# EAGLE library part S1D13524 (library epd)
edit this description Auto generated by make-symbol-device-package-bsdl.ulp Rev. 44 Source:
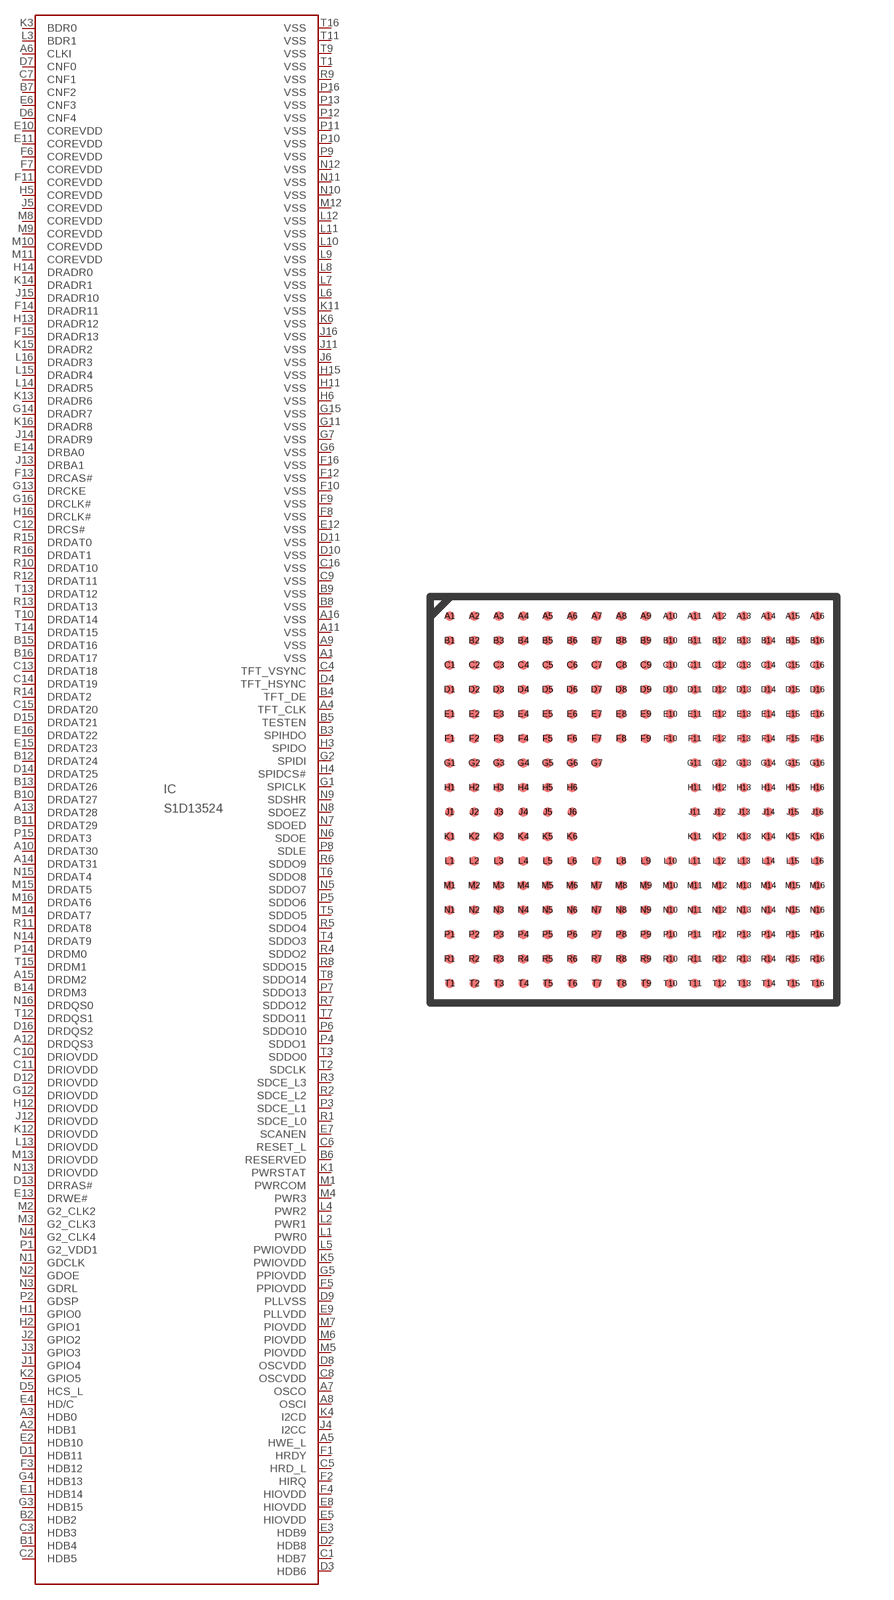
[diagram p0: symbol with the pads of PFBGA11UK; footprint PFBGA11UK]

Designator prefix IC

## S1D13524  [PFBGA11UK]
A1  VSS  pwr
A2  HDB1
A3  HDB0
A4  TFT_CLK  in
A5  HWE_L  in
A6  CLKI  in
A7  OSCO  out
A8  OSCI  in
A9  VSS  pwr
A10  DRDAT30
A11  VSS  pwr
A12  DRDQS3
A13  DRDAT28
A14  DRDAT31
A15  DRDM2  out
A16  VSS  pwr
B1  HDB4
B2  HDB2
B3  SPIHDO  out
B4  TFT_DE  in
B5  TESTEN  in
B6  RESERVED  in
B7  CNF2  in
B8  VSS  pwr
B9  VSS  pwr
B10  DRDAT27
B11  DRDAT29
B12  DRDAT24
B13  DRDAT26
B14  DRDM3  out
B15  DRDAT16
B16  DRDAT17
C1  HDB7
C2  HDB5
C3  HDB3
C4  TFT_VSYNC  in
C5  HRD_L  in
C6  RESET_L  in
C7  CNF1  in
C8  OSCVDD  pwr
C9  VSS  pwr
C10  DRIOVDD  pwr
C11  DRIOVDD  pwr
C12  DRCS#  out
C13  DRDAT18
C14  DRDAT19
C15  DRDAT20
C16  VSS  pwr
D1  HDB11
D2  HDB8
D3  HDB6
D4  TFT_HSYNC  in
D5  HCS_L  in
D6  CNF4  in
D7  CNF0  in
D8  OSCVDD  pwr
D9  PLLVSS  pwr
D10  VSS  pwr
D11  VSS  pwr
D12  DRIOVDD  pwr
D13  DRRAS#  out
D14  DRDAT25
D15  DRDAT21
D16  DRDQS2
E1  HDB14
E2  HDB10
E3  HDB9
E4  HD/C  in
E5  HIOVDD  pwr
E6  CNF3  in
E7  SCANEN  in
E8  HIOVDD  pwr
E9  PLLVDD  pwr
E10  COREVDD  pwr
E11  COREVDD  pwr
E12  VSS  pwr
E13  DRWE#  out
E14  DRBA0  out
E15  DRDAT23
E16  DRDAT22
F1  HRDY
F2  HIRQ
F3  HDB12
F4  HIOVDD  pwr
F5  PPIOVDD  pwr
F6  COREVDD  pwr
F7  COREVDD  pwr
F8  VSS  pwr
F9  VSS  pwr
F10  VSS  pwr
F11  COREVDD  pwr
F12  VSS  pwr
F13  DRCAS#  out
F14  DRADR11  out
F15  DRADR13  out
F16  VSS  pwr
G1  SPICLK  out
G2  SPIDI  in
G3  HDB15
G4  HDB13
G5  PPIOVDD  pwr
G6  VSS  pwr
G7  VSS  pwr
G11  VSS  pwr
G12  DRIOVDD  pwr
G13  DRCKE  out
G14  DRADR7  out
G15  VSS  pwr
G16  DRCLK#  out
H1  GPIO0
H2  GPIO1
H3  SPIDO  out
H4  SPIDCS#  out
H5  COREVDD  pwr
H6  VSS  pwr
H11  VSS  pwr
H12  DRIOVDD  pwr
H13  DRADR12  out
H14  DRADR0  out
H15  VSS  pwr
H16  DRCLK#  out
J1  GPIO4
J2  GPIO2
J3  GPIO3
J4  I2CC
J5  COREVDD  pwr
J6  VSS  pwr
J11  VSS  pwr
J12  DRIOVDD  pwr
J13  DRBA1  out
J14  DRADR9  out
J15  DRADR10  out
J16  VSS  pwr
K1  PWRSTAT  in
K2  GPIO5
K3  BDR0  out
K4  I2CD
K5  PWIOVDD  pwr
K6  VSS  pwr
K11  VSS  pwr
K12  DRIOVDD  pwr
K13  DRADR6  out
K14  DRADR1  out
K15  DRADR2  out
K16  DRADR8  out
L1  PWR0  out
L2  PWR1  out
L3  BDR1  out
L4  PWR2  out
L5  PWIOVDD  pwr
L6  VSS  pwr
L7  VSS  pwr
L8  VSS  pwr
L9  VSS  pwr
L10  VSS  pwr
L11  VSS  pwr
L12  VSS  pwr
L13  DRIOVDD  pwr
L14  DRADR5  out
L15  DRADR4  out
L16  DRADR3  out
M1  PWRCOM  out
M2  G2_CLK2  out
M3  G2_CLK3  out
M4  PWR3  out
M5  PIOVDD  pwr
M6  PIOVDD  pwr
M7  PIOVDD  pwr
M8  COREVDD  pwr
M9  COREVDD  pwr
M10  COREVDD  pwr
M11  COREVDD  pwr
M12  VSS  pwr
M13  DRIOVDD  pwr
M14  DRDAT7
M15  DRDAT5
M16  DRDAT6
N1  GDCLK  out
N2  GDOE  out
N3  GDRL  out
N4  G2_CLK4  out
N5  SDDO7  out
N6  SDOE  out
N7  SDOED  out
N8  SDOEZ  out
N9  SDSHR  out
N10  VSS  pwr
N11  VSS  pwr
N12  VSS  pwr
N13  DRIOVDD  pwr
N14  DRDAT9
N15  DRDAT4
N16  DRDQS0
P1  G2_VDD1  out
P2  GDSP  out
P3  SDCE_L1  out
P4  SDDO1  out
P5  SDDO6  out
P6  SDDO10  out
P7  SDDO13  out
P8  SDLE  out
P9  VSS  pwr
P10  VSS  pwr
P11  VSS  pwr
P12  VSS  pwr
P13  VSS  pwr
P14  DRDM0  out
P15  DRDAT3
P16  VSS  pwr
R1  SDCE_L0  out
R2  SDCE_L2  out
R3  SDCE_L3  out
R4  SDDO2  out
R5  SDDO4  out
R6  SDDO9  out
R7  SDDO12  out
R8  SDDO15  out
R9  VSS  pwr
R10  DRDAT10
R11  DRDAT8
R12  DRDAT11
R13  DRDAT13
R14  DRDAT2
R15  DRDAT0
R16  DRDAT1
T1  VSS  pwr
T2  SDCLK  out
T3  SDDO0  out
T4  SDDO3  out
T5  SDDO5  out
T6  SDDO8  out
T7  SDDO11  out
T8  SDDO14  out
T9  VSS  pwr
T10  DRDAT14
T11  VSS  pwr
T12  DRDQS1
T13  DRDAT12
T14  DRDAT15
T15  DRDM1  out
T16  VSS  pwr

## Footprint PFBGA11UK (pad centres in mm)
edit this description Auto generated by make-symbol-device-package-bsdl.ulp Rev. 44 Source:
smd 0.25 x 0.25: A1 -4.875,4.875; A2 -4.225,4.875; A3 -3.575,4.875; A4 -2.925,4.875; A5 -2.275,4.875; A6 -1.625,4.875; A7 -0.975,4.875; A8 -0.325,4.875; A9 0.325,4.875; A10 0.975,4.875; A11 1.625,4.875; A12 2.275,4.875; A13 2.925,4.875; A14 3.575,4.875; A15 4.225,4.875; A16 4.875,4.875; B1 -4.875,4.225; B2 -4.225,4.225; B3 -3.575,4.225; B4 -2.925,4.225; B5 -2.275,4.225; B6 -1.625,4.225; B7 -0.975,4.225; B8 -0.325,4.225; B9 0.325,4.225; B10 0.975,4.225; B11 1.625,4.225; B12 2.275,4.225; B13 2.925,4.225; B14 3.575,4.225; B15 4.225,4.225; B16 4.875,4.225; C1 -4.875,3.575; C2 -4.225,3.575; C3 -3.575,3.575; C4 -2.925,3.575; C5 -2.275,3.575; C6 -1.625,3.575; C7 -0.975,3.575; C8 -0.325,3.575; C9 0.325,3.575; C10 0.975,3.575; C11 1.625,3.575; C12 2.275,3.575; C13 2.925,3.575; C14 3.575,3.575; C15 4.225,3.575; C16 4.875,3.575; D1 -4.875,2.925; D2 -4.225,2.925; D3 -3.575,2.925; D4 -2.925,2.925; D5 -2.275,2.925; D6 -1.625,2.925; D7 -0.975,2.925; D8 -0.325,2.925; D9 0.325,2.925; D10 0.975,2.925; D11 1.625,2.925; D12 2.275,2.925; D13 2.925,2.925; D14 3.575,2.925; D15 4.225,2.925; D16 4.875,2.925; E1 -4.875,2.275; E2 -4.225,2.275; E3 -3.575,2.275; E4 -2.925,2.275; E5 -2.275,2.275; E6 -1.625,2.275; E7 -0.975,2.275; E8 -0.325,2.275; E9 0.325,2.275; E10 0.975,2.275; E11 1.625,2.275; E12 2.275,2.275; E13 2.925,2.275; E14 3.575,2.275; E15 4.225,2.275; E16 4.875,2.275; F1 -4.875,1.625; F2 -4.225,1.625; F3 -3.575,1.625; F4 -2.925,1.625; F5 -2.275,1.625; F6 -1.625,1.625; F7 -0.975,1.625; F8 -0.325,1.625; F9 0.325,1.625; F10 0.975,1.625; F11 1.625,1.625; F12 2.275,1.625; F13 2.925,1.625; F14 3.575,1.625; F15 4.225,1.625; F16 4.875,1.625; G1 -4.875,0.975; G2 -4.225,0.975; G3 -3.575,0.975; G4 -2.925,0.975; G5 -2.275,0.975; G6 -1.625,0.975; G7 -0.975,0.975; G11 1.625,0.975; G12 2.275,0.975; G13 2.925,0.975; G14 3.575,0.975; G15 4.225,0.975; G16 4.875,0.975; H1 -4.875,0.325; H2 -4.225,0.325; H3 -3.575,0.325; H4 -2.925,0.325; H5 -2.275,0.325; H6 -1.625,0.325; H11 1.625,0.325; H12 2.275,0.325; H13 2.925,0.325; H14 3.575,0.325; H15 4.225,0.325; H16 4.875,0.325; J1 -4.875,-0.325; J2 -4.225,-0.325; J3 -3.575,-0.325; J4 -2.925,-0.325; J5 -2.275,-0.325; J6 -1.625,-0.325; J11 1.625,-0.325; J12 2.275,-0.325; J13 2.925,-0.325; J14 3.575,-0.325; J15 4.225,-0.325; J16 4.875,-0.325; K1 -4.875,-0.975; K2 -4.225,-0.975; K3 -3.575,-0.975; K4 -2.925,-0.975; K5 -2.275,-0.975; K6 -1.625,-0.975; K11 1.625,-0.975; K12 2.275,-0.975; K13 2.925,-0.975; K14 3.575,-0.975; K15 4.225,-0.975; K16 4.875,-0.975; L1 -4.875,-1.625; L2 -4.225,-1.625; L3 -3.575,-1.625; L4 -2.925,-1.625; L5 -2.275,-1.625; L6 -1.625,-1.625; L7 -0.975,-1.625; L8 -0.325,-1.625; L9 0.325,-1.625; L10 0.975,-1.625; L11 1.625,-1.625; L12 2.275,-1.625; L13 2.925,-1.625; L14 3.575,-1.625; L15 4.225,-1.625; L16 4.875,-1.625; M1 -4.875,-2.275; M2 -4.225,-2.275; M3 -3.575,-2.275; M4 -2.925,-2.275; M5 -2.275,-2.275; M6 -1.625,-2.275; M7 -0.975,-2.275; M8 -0.325,-2.275; M9 0.325,-2.275; M10 0.975,-2.275; M11 1.625,-2.275; M12 2.275,-2.275; M13 2.925,-2.275; M14 3.575,-2.275; M15 4.225,-2.275; M16 4.875,-2.275; N1 -4.875,-2.925; N2 -4.225,-2.925; N3 -3.575,-2.925; N4 -2.925,-2.925; N5 -2.275,-2.925; N6 -1.625,-2.925; N7 -0.975,-2.925; N8 -0.325,-2.925; N9 0.325,-2.925; N10 0.975,-2.925; N11 1.625,-2.925; N12 2.275,-2.925; N13 2.925,-2.925; N14 3.575,-2.925; N15 4.225,-2.925; N16 4.875,-2.925; P1 -4.875,-3.575; P2 -4.225,-3.575; P3 -3.575,-3.575; P4 -2.925,-3.575; P5 -2.275,-3.575; P6 -1.625,-3.575; P7 -0.975,-3.575; P8 -0.325,-3.575; P9 0.325,-3.575; P10 0.975,-3.575; P11 1.625,-3.575; P12 2.275,-3.575; P13 2.925,-3.575; P14 3.575,-3.575; P15 4.225,-3.575; P16 4.875,-3.575; R1 -4.875,-4.225; R2 -4.225,-4.225; R3 -3.575,-4.225; R4 -2.925,-4.225; R5 -2.275,-4.225; R6 -1.625,-4.225; R7 -0.975,-4.225; R8 -0.325,-4.225; R9 0.325,-4.225; R10 0.975,-4.225; R11 1.625,-4.225; R12 2.275,-4.225; R13 2.925,-4.225; R14 3.575,-4.225; R15 4.225,-4.225; R16 4.875,-4.225; T1 -4.875,-4.875; T2 -4.225,-4.875; T3 -3.575,-4.875; T4 -2.925,-4.875; T5 -2.275,-4.875; T6 -1.625,-4.875; T7 -0.975,-4.875; T8 -0.325,-4.875; T9 0.325,-4.875; T10 0.975,-4.875; T11 1.625,-4.875; T12 2.275,-4.875; T13 2.925,-4.875; T14 3.575,-4.875; T15 4.225,-4.875; T16 4.875,-4.875